# Altium footprint library Zond_ctrl_v1.PcbLib: 38 footprints (part 3 of 3)
Each footprint in its own frame and in the unit in brackets; x right, y up, seen from the top. Pads: shape width x height; smd on the part's side, far side on the other; paste and mask are expansions set on the pad; w line width, h text height; cw(c..) or ccw(c..) is an arc to the next point about the centre after c.
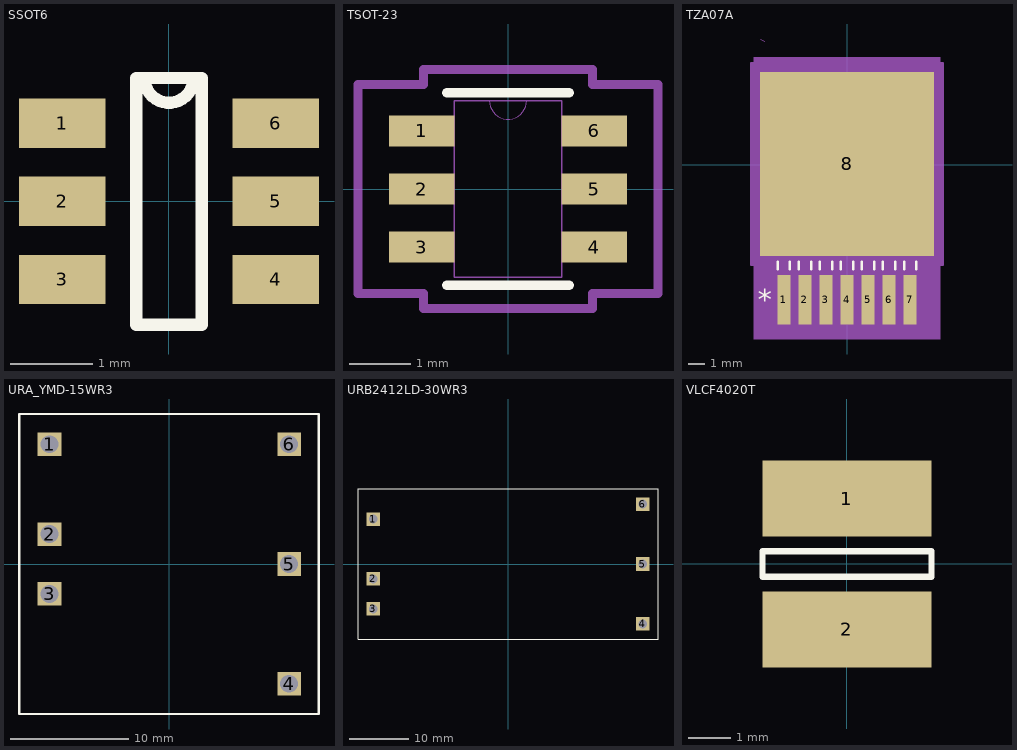
[diagram p2: the footprints below, top view; thin cyan lines are the x and y axes]

## SSOT6 [mm]
height 2.05
pads (6):
  rect 1.05x0.6 smd: 1(-1.3,0.95) 2(-1.3,0) 3(-1.3,-0.95) 4(1.3,-0.95) 5(1.3,0) 6(1.3,0.95)
Top Overlay:
  lines w0.15: -0.3,1.5 ccw(c0,1.5) 0.3,1.5 ; 0.15,1.5 0.4,1.5 0.4,-1.5 -0.4,-1.5 -0.4,1.5 0.2,1.5
3D body "SSOT6.STEP": height 1, standoff 0, extent -1.5,-1.475 1.5,1.525

## TSOT-23 [mm] "LT1933"
height 2.05
pads (6):
  rect 1.071x0.507 smd paste+0 mask+0: 1(-1.412,0.95) 2(-1.412,0) 3(-1.412,-0.95) 4(1.412,-0.95) 5(1.412,0) 6(1.412,0.95)
Top Overlay:
  lines w0.152: -1.003,-1.575 1.003,-1.575 ; -1.003,1.575 1.003,1.575
Mechanical 13:
  lines w0: -0.305,1.448 ccw(c0,1.448) 0.305,1.448
  lines w0.025: -1.397,-1.179 -1.397,-0.721 -0.876,-0.721 -0.876,-1.179 -1.397,-1.179 ; -1.397,-0.229 -1.397,0.229 -0.876,0.229 -0.876,-0.229 -1.397,-0.229 ; -1.397,0.721 -1.397,1.179 -0.876,1.179 -0.876,0.721 -1.397,0.721 ; -0.876,-1.448 0.876,-1.448 0.876,1.448 -0.876,1.448 -0.876,-1.448 ; 0.876,-1.179 0.876,-0.721 1.397,-0.721 1.397,-1.179 0.876,-1.179 ; 0.876,-0.229 0.876,0.229 1.397,0.229 1.397,-0.229 0.876,-0.229 ; 0.876,0.721 0.876,1.179 1.397,1.179 1.397,0.721 0.876,0.721
  text "*" at -2.032,1.27 h1.27
Mechanical 15:
  lines w0.152: -2.455,-1.712 -2.455,1.712 -1.384,1.712 -1.384,1.956 1.384,1.956 1.384,1.712 2.455,1.712 2.455,-1.712 1.384,-1.712 1.384,-1.956 -1.384,-1.956 -1.384,-1.712 -2.455,-1.712
3D body: height 0.25, standoff 0, extent 0,0 0.254,0.254
3D body "TSOT-23_S6_LIT-M.step": height 0.99, standoff 0, extent -1.397,-1.448 1.397,1.448

## TZA07A [mil]
height 80.71
pads (8):
  rect 31x117 smd paste+0 mask+0: 1(-150,-320.5) 2(-100,-320.5) 3(-50,-320.5) 4(0,-320.5) 5(50,-320.5) 6(100,-320.5) 7(150,-320.5)
  rect 414x438 smd paste+0 mask+0: 8(0,2)
Top Overlay:
  lines w6: -164.5,-248 -164.5,-230.1 ; -135.5,-248 -135.5,-230.1 ; -114.5,-248 -114.5,-230.1 ; -85.5,-248 -85.5,-230.1 ; -64.5,-248 -64.5,-230.1 ; -35.5,-248 -35.5,-230.1 ; -14.5,-248 -14.5,-230.1 ; 14.5,-248 14.5,-230.1 ; 35.5,-248 35.5,-230.1 ; 64.5,-248 64.5,-230.1 ; 85.5,-248 85.5,-230.1 ; 114.5,-248 114.5,-230.1 ; 135.5,-248 135.5,-230.1 ; 164.5,-248 164.5,-230.1
  text "*" at -212.5,-345.5 h50
Mechanical 5:
  region: -222,256 222,256 222,-414 -222,-414
Mechanical 7:
  lines w1: -205,299 -195,294
Mechanical 13:
  lines w1: -205,-199 -205,199 205,199 205,-199 -205,-199 ; -164.5,-357 -135.5,-357 -135.5,-199 -164.5,-199 -164.5,-357 ; -114.5,-357 -85.5,-357 -85.5,-199 -114.5,-199 -114.5,-357 ; -64.5,-357 -35.5,-357 -35.5,-199 -64.5,-199 -64.5,-357 ; -14.5,-357 14.5,-357 14.5,-199 -14.5,-199 -14.5,-357 ; 35.5,-357 64.5,-357 64.5,-199 35.5,-199 35.5,-357 ; 85.5,-357 114.5,-357 114.5,-199 85.5,-199 85.5,-357 ; 135.5,-357 164.5,-357 164.5,-199 135.5,-199 135.5,-357
  text "*" at -162.5,-214 h50
Mechanical 15:
  region: -185.5,-237 -227,-237 -227,241 227,241 227,-237 185.5,-237 185.5,-399 -185.5,-399
  lines w6: -227,-237 -185.5,-237 -185.5,-399 185.5,-399 185.5,-237 227,-237 227,241 -227,241 -227,-237
3D body "NDW0007A.stp": height 185.93, standoff -1.87, extent -200,-348.22 200,193.9
3D body: height 10, standoff 0, extent 0,0 10,10

## URA_YMD-15WR3 [mm] "DC-DC converter"
height 2.05
pads (6):
  rect 2x2 hole 1.5: 1(-10.16,10.16) 2(-10.16,2.54) 3(-10.16,-2.54) 4(10.16,-10.16) 5(10.16,0) 6(10.16,10.16)
Top Overlay:
  lines w0.2: 12.675,-12.725 12.675,12.722 12.671,12.725 -12.725,12.725 -12.725,-12.725 -12.725,-12.725 12.675,-12.725 ; 12.675,-12.725 12.675,-12.725
3D body "URA_YMD-15WR3.stp": height 11.7, standoff -4.15, extent -12.725,-12.725 12.675,12.725

## URB2412LD-30WR3 [mm] "DC-DC Brick"
height 11.8
pads (6):
  rect 2.3x2.3 hole 1.5: 1(-22.86,7.62) 2(-22.86,-2.54) 3(-22.86,-7.62) 4(22.86,-10.16) 5(22.86,0) 6(22.86,10.16)
Top Overlay:
  lines w0.2: -25.45,-12.75 25.45,-12.75 25.45,12.75 -25.45,12.75 -25.45,-12.75
3D body "URB_LD-30WR3.stp": height 11.8, standoff -4, extent -25.45,-12.75 25.45,12.75

## VLCF4020T [mm]
height 2.05
pads (2):
  rect 4x1.8 smd: 1(0,1.55) 2(0,-1.55)
Top Overlay:
  lines w0.15: -2,-0.3 2,-0.3 2,0.3 -2,0.3 -2,-0.3
3D body "VLCF4020T.STEP": height 2, standoff 0, extent -2.007,-2.134 1.993,1.866